# Altium schematic symbol library ER23 4P 2S.Schlib: 1 symbol
Pins are listed as number, name and electrical type; pins without a type are passive.

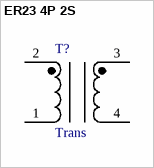
[diagram p0: symbol ER23 4P 2S]

## ER23 4P 2S
designator T?, comment Trans
Transformer
pins: 1, 2, 3, 4